# Altium schematic symbol library reference_voltage_sources.SchLib: 10 symbols
Pins are listed as number, name and electrical type; pins without a type are passive.

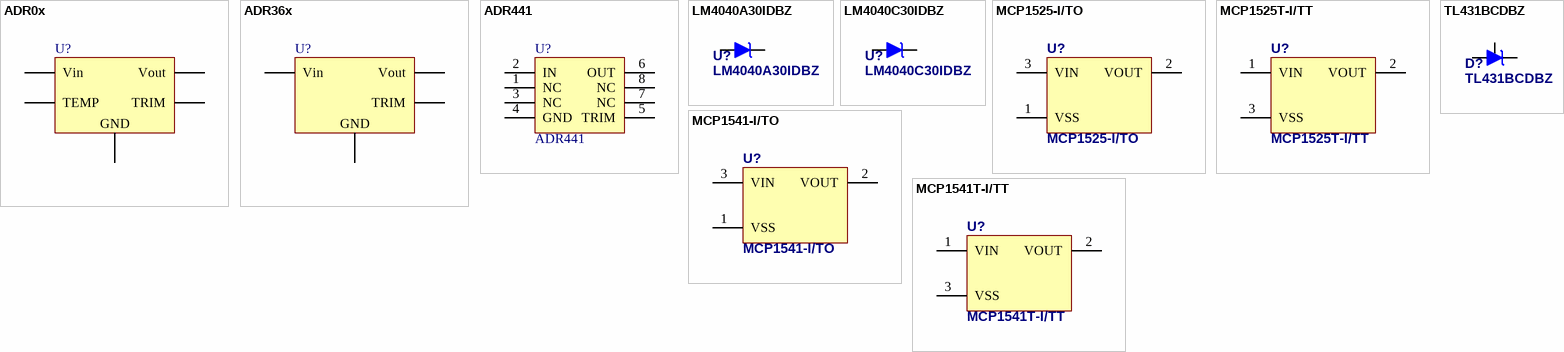
[diagram p0: symbols ADR0x to TL431BCDBZ]

## ADR0x
designator U?
Ultracompact, Precision Voltage Reference; Published: 01-Mar-2006; PackageReference: TSOT
footprint TSOT (5-Lead Thin Small Outline Transistor Package)
pins: 1 TEMP, 2 GND (power), 3 Vin (power), 4 Vout (power), 5 TRIM

## ADR36x
designator U?
Low Power, Low Noise Voltage References  with Sink/Source Capability; Published: 01-Mar-2006; PackageReference: TSOT
footprint TSOT (5-Lead Thin Small Outline Transistor Package)
pins: 2 GND (power), 3 Vin (power), 4 Vout (power), 5 TRIM

## ADR441
designator U?
+2.5V Precision Voltage Reference; 0.04%; noise 1.2uVpp; 3-10ppm/C; Note: Pins 1, 3, 7 and 8 are not connected; Published: 14-Aug-2008; Publisher: mmakow
footprint SOIC (PowerPad)
pins: 1 NC, 2 IN (power), 3 NC, 4 GND (power), 5 TRIM, 6 OUT (power), 7 NC, 8 NC

## LM4040A30IDBZ
designator U?
3,0V, 0,1% (A Grade), 100ppm Precision Micropower Shunt Voltage Reference; Supplier 1: Farnell; Supplier 2: Farnell; Supplier 3: Farnell; Supplier 4: Farnell; Supplier 5: Farnell; Supplier 6: Farnell; Supplier Part Number 1: 1755106; Supplier Part Number 2: 2342604RL; Supplier Part Number 3: 2436085; Supplier Part Number 4: 1755106RL; Supplier Part Number 5: 2342604; Supplier Part Number 6: 1295926
footprint SOT-23
pins: 1 K, 2 A
1 alternate drawing of the same symbol

## LM4040C30IDBZ
designator U?
3,0V, 0,5% (C Grade), 100ppm Precision Micropower Shunt Voltage Reference; Supplier 1: Farnell; Supplier 2: Farnell; Supplier 3: Farnell; Supplier Part Number 1: 2436104; Supplier Part Number 2: 1755113RL; Supplier Part Number 3: 1755113
footprint SOT-23
pins: 1 K, 2 A
1 alternate drawing of the same symbol

## MCP1525-I/TO
designator U?
2.5V, 1%, +/-50ppm/C Voltage Reference
footprint TO-92A
pins: 1 VSS (power), 2 VOUT, 3 VIN

## MCP1525T-I/TT
designator U?
2.5V, 1%, +/-50ppm/C Voltage Reference
footprint SOT-23
footprint SOT-23W
pins: 1 VIN, 2 VOUT, 3 VSS (power)

## MCP1541-I/TO
designator U?
4.096V, 1%, +/-50ppm/C Voltage Reference
footprint TO-92A
pins: 1 VSS (power), 2 VOUT, 3 VIN

## MCP1541T-I/TT
designator U?
4.096V, 1%, +/-50ppm/C Voltage Reference
footprint SOT-23
footprint SOT-23W
pins: 1 VIN, 2 VOUT, 3 VSS (power)

## TL431BCDBZ
designator D?
0,5% Precision Programmable Reference
footprint SOT-23
pins: 1 K, 2 REF, 3 A
1 alternate drawing of the same symbol